# Altium integrated library FDC6331L.IntLib: 1 symbol
Pins are listed as number, name and electrical type; pins without a type are passive.

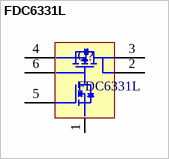
[diagram p0: symbol FDC6331L]

## FDC6331L
designator Q?
Supplier 1: Farnell; Supplier 2: Digi-Key; Supplier 3: Mouser; Supplier Part Number 1: 1652468; Supplier Part Number 2: FDC6331LTR-ND; Supplier Part Number 3: 512-FDC6331L
footprint PCBComponent_1
pins: 1 R2, 2 Vout, 3 Vout, 4 Vin, 5 ON/OFF, 6 R1/C1